# EAGLE library part CRA12ES (library cccamd)
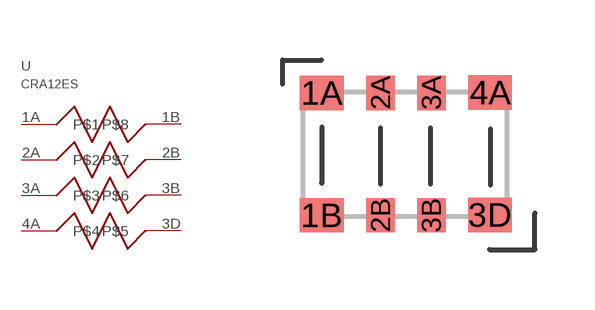
[diagram p3: symbol with the pads of RES_ARRY; footprint RES_ARRY]

Designator prefix -

## CRA12ES  [RES_ARRY]
1A  P$1
1B  P$8
2A  P$2
2B  P$7
3A  P$3
3B  P$6
3D  P$5
4A  P$4

## Footprint RES_ARRY (pad centres in mm)
smd 1.09 x 0.86: 1A -2.09,1.56; 1B -2.09,-1.5; 3D 2.12,-1.49; 4A 2.12,1.57
smd 0.71 x 0.86: 2A -0.62,1.56; 2B -0.62,-1.5; 3A 0.65,1.56; 3B 0.65,-1.5